# EAGLE library part ACS37002LLAATR-015B5 (library ACS37002LLAATR-015B5)
400 kHz, High Accuracy Current Sensor with Pin-Selectable Gains Source: Datasheet <https://www.allegromicro.com/-/media/files/datasheets/acs37002-datasheet.pdf?sc_lang=en>
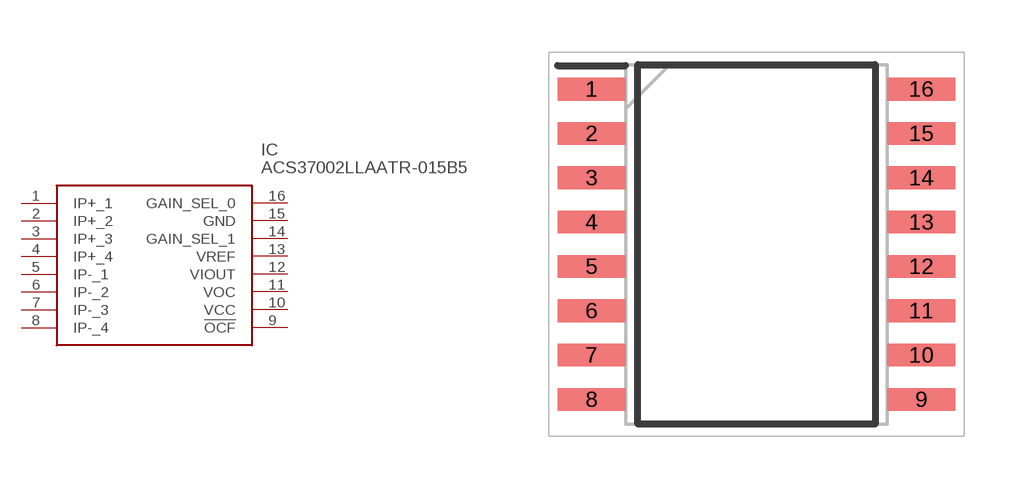
[diagram p0: symbol with the pads of SOIC127P1030X265-16N; footprint SOIC127P1030X265-16N]

Designator prefix IC

## ACS37002LLAATR-015B5 (Description: 400 kHz, High Accuracy Current Sensor with Pin-Selectable Gains; Height: 2.65mm; Manufacturer_Name: Allegro Microsystems; Manufacturer_Part_Number: ACS37002LLAATR-015B5; Mouser_Part_Number: 250-37002LLAATR015B5; Mouser_Price-Stock: https://www.mouser.co.uk/ProductDetail/Allegro-MicroSystems/ACS37002LLAATR-015B5?qs=vvQtp7zwQdNXxQ%2F%252Blf3Qug%3D%3D)  [SOIC127P1030X265-16N]
1  IP+_1
2  IP+_2
3  IP+_3
4  IP+_4
5  IP-_1
6  IP-_2
7  IP-_3
8  IP-_4
9  !OCF
10  VCC
11  VOC
12  VIOUT
13  VREF
14  GAIN_SEL_1
15  GND
16  GAIN_SEL_0

## Footprint SOIC127P1030X265-16N (pad centres in mm)
16 SOICW Package LA
smd 1.95 x 0.65: 1 -4.725,4.445; 2 -4.725,3.175; 3 -4.725,1.905; 4 -4.725,0.635; 5 -4.725,-0.635; 6 -4.725,-1.905; 7 -4.725,-3.175; 8 -4.725,-4.445; 9 4.725,-4.445; 10 4.725,-3.175; 11 4.725,-1.905; 12 4.725,-0.635; 13 4.725,0.635; 14 4.725,1.905; 15 4.725,3.175; 16 4.725,4.445